# Altium footprint library HC05_Bluetooth_SCHEMATIC_PCB.PcbLib: 1 footprints
Each footprint in its own frame and in the unit in brackets; x right, y up, seen from the top. Pads: shape width x height; smd on the part's side, far side on the other; paste and mask are expansions set on the pad; w line width, h text height; cw(c..) or ccw(c..) is an arc to the next point about the centre after c.
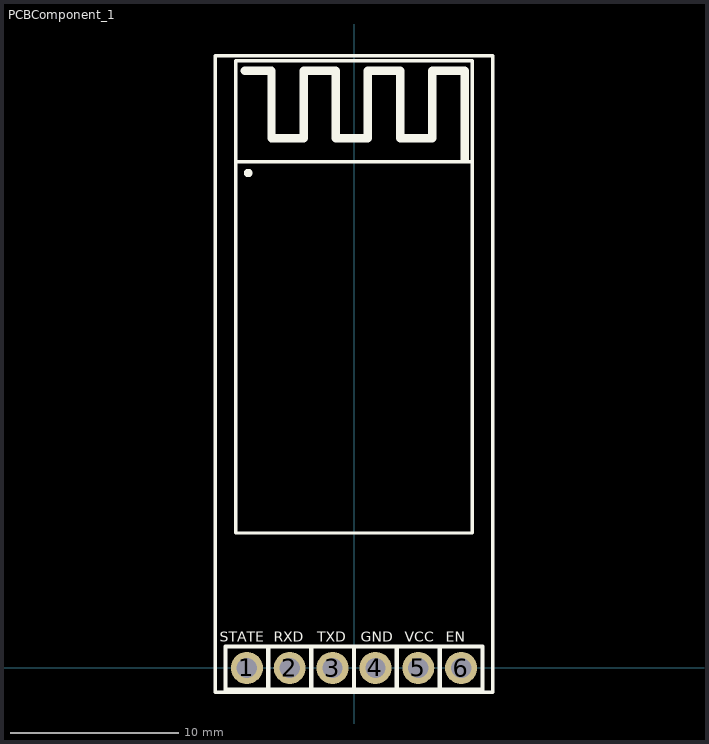
[diagram p0: the footprint, top view; thin cyan lines are the x and y axes]

## PCBComponent_1 [mm]
pads (6):
  round 1.9 hole 1.2: 1(-6.35,0) 2(-3.81,0) 3(-1.27,0) 4(1.27,0) 5(3.81,0) 6(6.35,0)
Top Overlay:
  circle w0.3: c-6.274,29.337 r0.1
  lines w0.2: -7,30 7,30 ; -8.225,-1.435 8.225,-1.435 ; -8.225,-1.435 8.225,-1.435 ; -8.225,-1.435 -8.225,36.284 8.225,36.284 8.225,-1.435 ; -7,8 7,8 7,36 -7,36 -7,8
  lines w0.254: -7.62,-1.27 -5.08,-1.27 ; -7.62,-1.27 -7.62,1.27 ; -7.62,-1.27 -5.08,-1.27 ; -7.62,-1.27 -7.62,1.27 ; -7.62,1.27 -5.08,1.27 ; -7.62,1.27 -5.08,1.27 ; -5.08,-1.27 -2.54,-1.27 ; -5.08,-1.27 -5.08,1.27 ; -5.08,-1.27 -5.08,1.27 ; -5.08,-1.27 -5.08,1.27 ; -5.08,1.27 -2.54,1.27 ; -2.54,-1.27 0,-1.27 ; -2.54,-1.27 -2.54,1.27 ; -2.54,-1.27 -2.54,1.27 ; -2.54,1.27 0,1.27 ; 0,-1.27 2.54,-1.27 ; 0,-1.27 0,1.27 ; 0,-1.27 0,1.27 ; 0,1.27 2.54,1.27 ; 2.54,-1.27 5.08,-1.27 ; 2.54,-1.27 2.54,1.27 ; 2.54,-1.27 2.54,1.27 ; 2.54,1.27 5.08,1.27 ; 5.08,-1.27 7.62,-1.27 7.62,1.27 5.08,1.27 ; 5.08,-1.27 5.08,1.27 ; 5.08,-1.27 5.08,1.27
  lines w0.5: -6.477,35.394 -4.889,35.394 -4.889,31.394 -2.984,31.394 -2.984,35.394 -1.079,35.394 -1.079,31.394 0.826,31.394 0.826,35.394 2.73,35.394 2.73,31.394 4.635,31.394 ; 4.648,31.408 4.648,35.408 6.553,35.408 6.553,30.15
  text "STATE" at -7.95,1.55 h0.6
  text "RXD" at -4.76,1.55 h0.6
  text "VCC" at 3.012,1.55 h0.6
  text "GND" at 0.396,1.55 h0.6
  text "TXD" at -2.169,1.55 h0.6
  text "EN" at 5.451,1.55 h0.6
3D body "HC_05 Blue Tooth Module.stp": height 6, standoff 0, extent -8.05,-6.19 8.05,36.53